# Altium footprint library USB-RS485-unit.PcbLib: 18 footprints (part 2 of 2)
Each footprint in its own frame and in the unit in brackets; x right, y up, seen from the top. Pads: shape width x height; smd on the part's side, far side on the other; paste and mask are expansions set on the pad; w line width, h text height; cw(c..) or ccw(c..) is an arc to the next point about the centre after c.
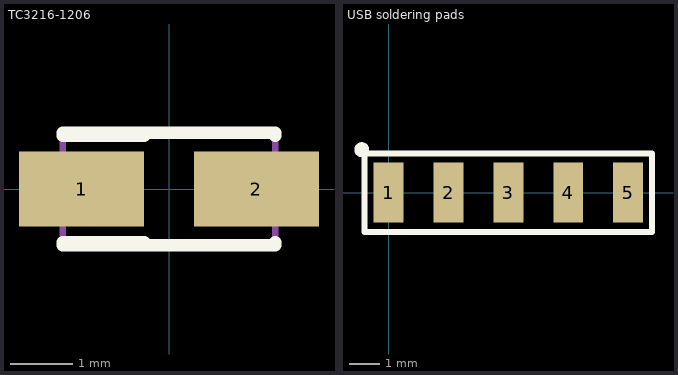
[diagram p1: the footprints below, top view; thin cyan lines are the x and y axes]

## TC3216-1206 [mm] "Capacitor, SM Tantalum; Body 3.2 x 1.6 mm (LxW typ)"
height 2.2
pads (2):
  rect 2x1.2 smd: 1(-1.4,0) 2(1.4,0)
Top Overlay:
  lines w0.2: -1.7,-0.9 1.7,-0.9 1.7,-0.85 ; -1.7,-0.85 -0.4,-0.85 ; -1.7,0.85 -0.4,0.85 ; -1.7,0.9 1.7,0.9 1.7,0.85
M14-Top Assembly:
  lines w0.1: -1.7,-0.9 -1.7,0.9 1.7,0.9 1.7,-0.9 -1.7,-0.9
3D body "593D A-CASE.x_t": height 1.84, standoff 0.01, extent -1.702,-0.95 1.702,0.948

## USB soldering pads [mm] "Isolated DC-DC"
pads (5):
  rect 1x2 smd: 1(0,0) 2(2,0) 3(4,0) 4(6,0) 5(8,0)
Top Overlay:
  circle w0.25: c-0.9,1.43 r0.125
  lines w0.2: -0.8,-1.32 8.8,-1.32 8.8,1.3 -0.8,1.3 -0.8,-1.32
M14-Top Assembly:
  lines w0.1: -0.79,-1.31 -0.79,1.31 8.8,1.31 8.8,-1.31 -0.79,-1.31